# Altium schematic symbol library Sensor.SchLib: 5 symbols
Pins are listed as number, name and electrical type; pins without a type are passive.

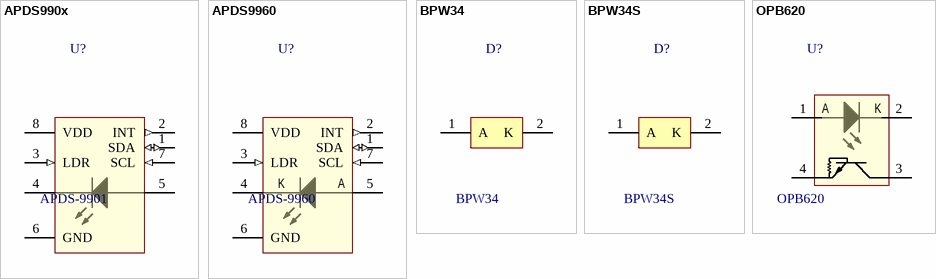
[diagram p0: symbols APDS990x to OPB620]

## APDS990x
designator U?, comment APDS-9901
Digital Proximity and Ambient Light Sensor; Manufacturer: AVAGO TECHNOLOGIES; Supplier 1: Farnell; Supplier Part Number 1: 2368145; Manufacturer Part Number: APDS-9901; ComponentLink1URL: http://www.farnell.com/datasheets/1772732.pdf; ComponentLink1Description: Datasheet
footprint APDS990x
pins: 1 SDA (io), 2 INT (out), 3 LDR (in), 4 "LED_K", 5 "LED_A", 6 GND (power), 7 SCL (in), 8 VDD (power)

## APDS9960
designator U?, comment APDS-9960
Digital Proximity, Ambient Light, RGB and Gesture Sensor; Manufacturer: AVAGO TECHNOLOGIES; Manufacturer Part Number: APDS-9960; ComponentLink1URL: http://www.farnell.com/datasheets/1801560.pdf; ComponentLink1Description: Datasheet; Supplier 1: Farnell; Supplier Part Number 1: 2401098
footprint APDS996X
pins: 1 SDA (io), 2 INT (out), 3 LDR (in), 4 LED_K, 5 LED_A, 6 GND (power), 7 SCL (in), 8 VDD (power)
text: K; A

## BPW34
designator D?
PHOTODIODE PIN TOP VIEW 2-DIP; Manufacturer: OSRAM; Manufacturer Part Number: BPW34; ComponentLink1URL: http://www.farnell.com/datasheets/45577.pdf; ComponentLink1Description: Datasheet; Supplier 1: Farnell; Supplier Part Number 1: 1045425
footprint BPW34
pins: 1 A, 2 K

## BPW34S
designator D?
Photodiode 850nm 20ns 120° 2-SMD, Gull Wing; Manufacturer: OSRAM; Manufacturer Part Number: BPW34S; ComponentLink1URL: http://www.farnell.com/datasheets/45577.pdf; ComponentLink1Description: Datasheet; Supplier 1: Farnell; Supplier Part Number 1: 1212745
footprint BPW34-S
pins: 1 A, 2 K

## OPB620
designator U?
SENSOR OPT SLOT TRANS W/RES PCB; Manufacturer: TT ELECTRONICS; Manufacturer Part Number: OPB620; ComponentLink1URL: http://www.farnell.com/datasheets/2702441.pdf; ComponentLink1Description: Datasheet; Supplier 1: Farnell; Supplier Part Number 1: 491330
footprint OPB620
pins: 1 LED_A, 2 LED_K, 3 NPN_C, 4 NPN_E
text: A; K